# Altium schematic symbol library Interface_I2C.SchLib: 424 symbols (part 1 of 23)
Pins are listed as number, name and electrical type; pins without a type are passive.

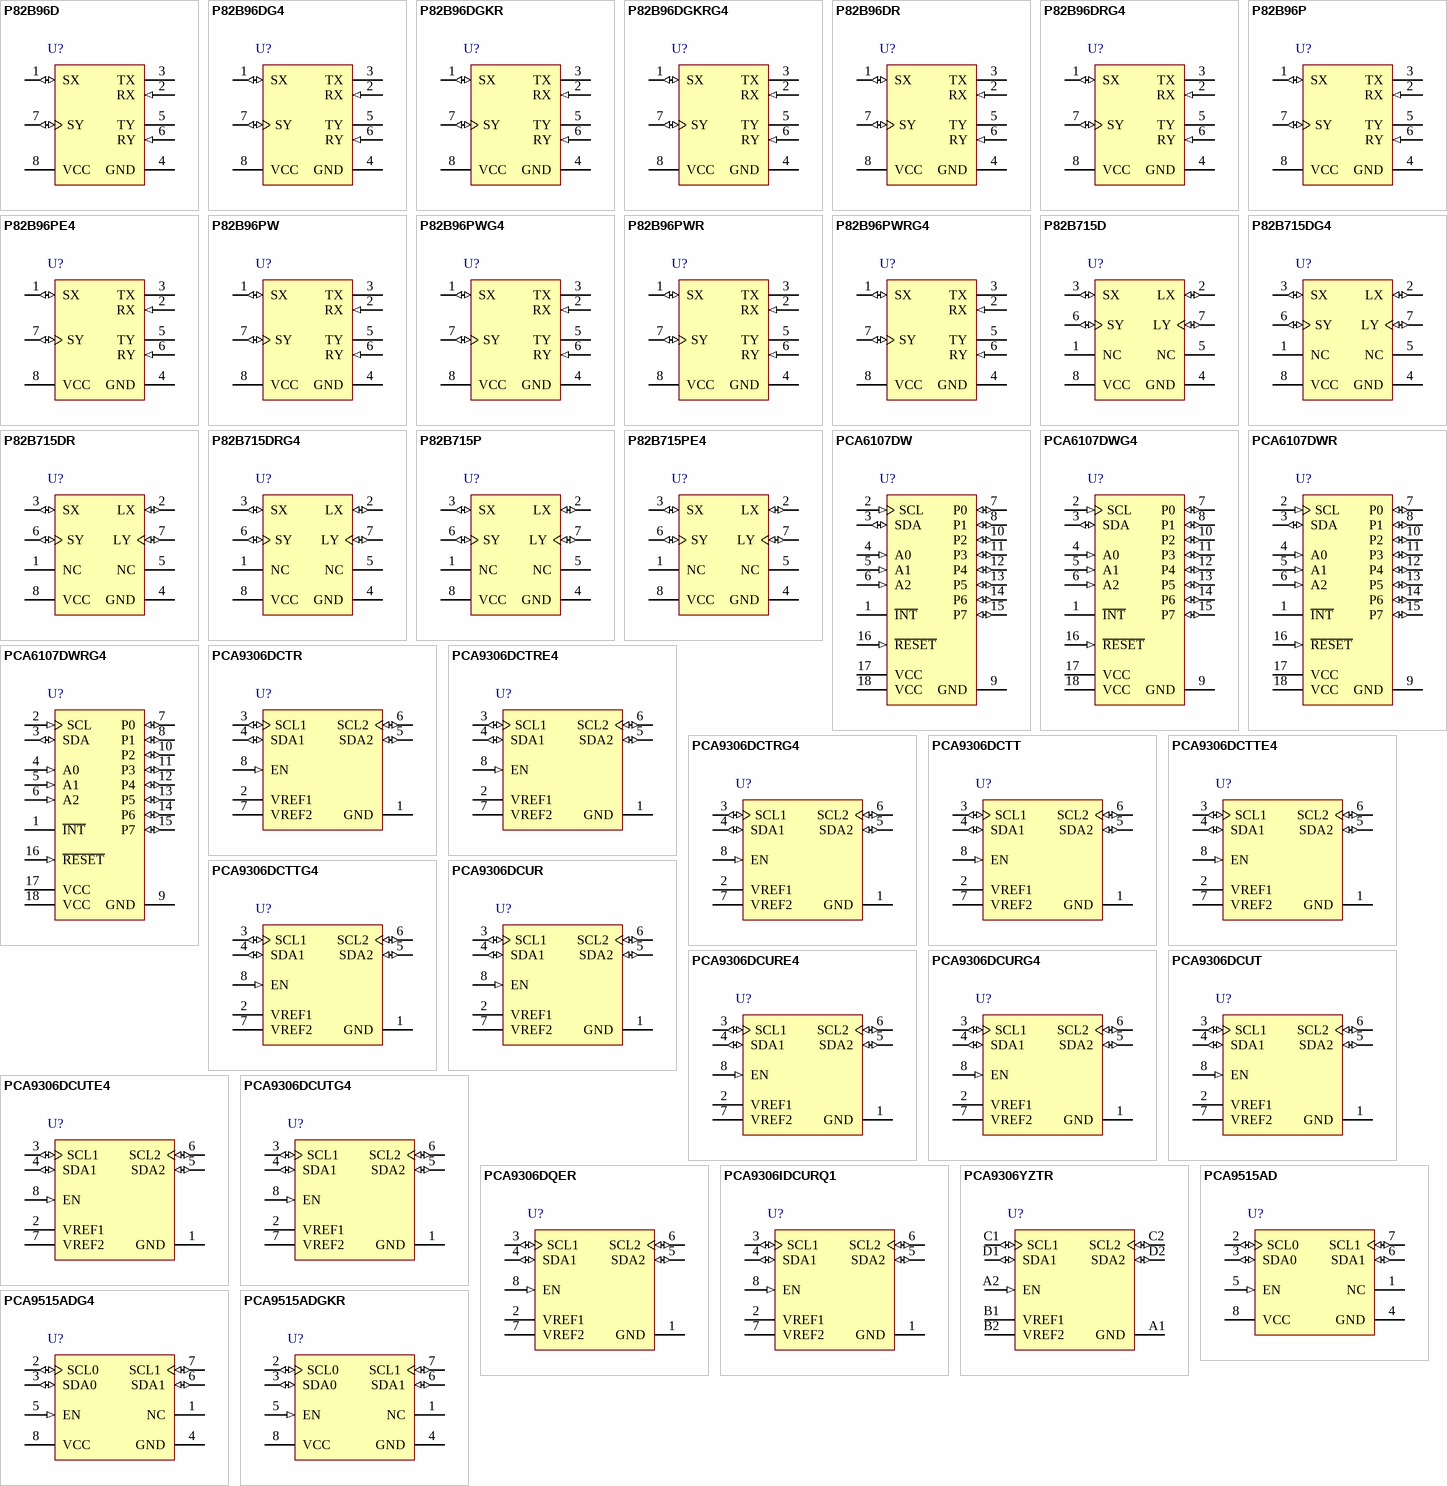
[diagram p0: symbols P82B96D to PCA9515ADGKR]

## P82B96D
designator U?
Dual Bidirectional Bus Buffer, 2 Channel Width, 2.0 to 15.0 V, -40 to 85 degC, 8-pin SOIC (D), Green (RoHS & no Sb/Br); Manufacturer: Texas Instruments; PartNumber: P82B96D; SubFamily: I2C Hub, Buffer, Repeater; No. of Outputs: 2; VCC(Max)(V): 15; Max Frequency(kHz): 400; 5V Tolerant I/O: Yes; DatasheetVersion: SCPS144B; PackageVersion: revM, Jun-2011; PackageReference: D8; PackageDescription: 8-Pin Plastic Small Outline Integrated Circuit, 4.9 x 3.9 mm, Pitch 1.27 mm Pitch; Supplier 1: Digi-Key; Supplier Part Number 1: P82B96D-ND; Supplier 2: Farnell; Supplier Part Number 2: 2120246; Supplier 3: Newark; Supplier Part Number 3: 88K6383; Supplier 4: Mouser; Supplier Part Number 4: 595-P82B96D; Eco-Plan: Green (RoHS & no Sb/Br); VCC(Min)(V): 2; Vcc range(V): 2.0 to 15.0; Channel Width: 2; Master Side I2C Bus Capacitance Supported(pF): 400; Slave Side I2C Bus Capacitance Supported(pF): 400; Open Drain I/O Type: Yes; Mounting Technology: Surface Mount; Code_JEDEC: MS-012AA; ComponentLink1Description: Datasheet; ComponentLink1URL: http://www.ti.com/general/docs/lit/getliterature.tsp?genericPartNumber=P82B96&fileType=pdf
footprint D8_N (SOIC, 8-Leads, Body 4.9x3.9mm, Pitch 1.27mm, IPC Medium Density)
footprint D8_L (SOIC, 8-Leads, Body 4.9x3.9mm, Pitch 1.27mm, IPC High Density)
footprint D8_M (SOIC, 8-Leads, Body 4.9x3.9mm, Pitch 1.27mm, IPC Low Density)
pins: 1 SX (io) "Serial data bus or SDA. Connect to VCC of I2C master through a pullup resistor.", 2 RX (in) "Receive signal. Connect to VCC of P82B96 through a pullup resistor.", 3 TX (oc) "Transmit signal. Connect to VCC of P82B96 through a pullup resistor.", 4 GND (power) "Ground", 5 TY (oc) "Transmit signal. Connect to VCC of P82B96 through a pullup resistor.", 6 RY (in) "Receive signal. Connect to VCC of P82B96 through a pullup resist", 7 SY (io) "Serial clock bus or SCL. Connect to VCC of I2C master through a pullup resistor.", 8 VCC (power) "Supply Voltage"

## P82B96DG4
designator U?
Dual Bidirectional Bus Buffer, 2 Channel Width, 2.0 to 15.0 V, -40 to 85 degC, 8-pin SOIC (D), Green (RoHS & no Sb/Br); Manufacturer: Texas Instruments; PartNumber: P82B96DG4; SubFamily: I2C Hub, Buffer, Repeater; No. of Outputs: 2; VCC(Max)(V): 15; Max Frequency(kHz): 400; 5V Tolerant I/O: Yes; DatasheetVersion: SCPS144B; PackageVersion: revM, Jun-2011; PackageReference: D8; PackageDescription: 8-Pin Plastic Small Outline Integrated Circuit, 4.9 x 3.9 mm, Pitch 1.27 mm Pitch; Supplier 1: Digi-Key; Supplier Part Number 1: P82B96DG4-ND; Supplier 2: Mouser; Supplier Part Number 2: 595-P82B96DG4; Eco-Plan: Green (RoHS & no Sb/Br); VCC(Min)(V): 2; Vcc range(V): 2.0 to 15.0; Channel Width: 2; Master Side I2C Bus Capacitance Supported(pF): 400; Slave Side I2C Bus Capacitance Supported(pF): 400; Open Drain I/O Type: Yes; Mounting Technology: Surface Mount; Code_JEDEC: MS-012AA; ComponentLink1Description: Datasheet; ComponentLink1URL: http://www.ti.com/general/docs/lit/getliterature.tsp?genericPartNumber=P82B96&fileType=pdf
footprint D8_N (SOIC, 8-Leads, Body 4.9x3.9mm, Pitch 1.27mm, IPC Medium Density)
footprint D8_L (SOIC, 8-Leads, Body 4.9x3.9mm, Pitch 1.27mm, IPC High Density)
footprint D8_M (SOIC, 8-Leads, Body 4.9x3.9mm, Pitch 1.27mm, IPC Low Density)
pins: 1 SX (io) "Serial data bus or SDA. Connect to VCC of I2C master through a pullup resistor.", 2 RX (in) "Receive signal. Connect to VCC of P82B96 through a pullup resistor.", 3 TX (oc) "Transmit signal. Connect to VCC of P82B96 through a pullup resistor.", 4 GND (power) "Ground", 5 TY (oc) "Transmit signal. Connect to VCC of P82B96 through a pullup resistor.", 6 RY (in) "Receive signal. Connect to VCC of P82B96 through a pullup resist", 7 SY (io) "Serial clock bus or SCL. Connect to VCC of I2C master through a pullup resistor.", 8 VCC (power) "Supply Voltage"

## P82B96DGKR
designator U?
Dual Bidirectional Bus Buffer, 2 Channel Width, 2.0 to 15.0 V, -40 to 85 degC, 8-pin MSOP (DGK), Green (RoHS & no Sb/Br); Manufacturer: Texas Instruments; PartNumber: P82B96DGKR; SubFamily: I2C Hub, Buffer, Repeater; No. of Outputs: 2; VCC(Max)(V): 15; Max Frequency(kHz): 400; 5V Tolerant I/O: Yes; DatasheetVersion: SCPS144B; PackageVersion: revE, May-2006; PackageReference: DGK8; PackageDescription: 8-Pin Thin Small Outline Package 3 x 3 mm Body ,0.65 mm Pitch; Supplier 1: Digi-Key; Supplier Part Number 1: 296-20941-2-ND; Supplier 2: Digi-Key; Supplier Part Number 2: 296-20941-1-ND; Supplier 3: Digi-Key; Supplier Part Number 3: 296-20941-6-ND; Supplier 4: Farnell; Supplier Part Number 4: 1576670; Supplier 5: Newark; Supplier Part Number 5: 88K6384; Supplier 6: Mouser; Supplier Part Number 6: 595-P82B96DGKR; Eco-Plan: Green (RoHS & no Sb/Br); VCC(Min)(V): 2; Vcc range(V): 2.0 to 15.0; Channel Width: 2; Master Side I2C Bus Capacitance Supported(pF): 400; Slave Side I2C Bus Capacitance Supported(pF): 400; Open Drain I/O Type: Yes; Mounting Technology: Surface Mount; Code_JEDEC: MO-187-AA; ComponentLink1Description: Datasheet; ComponentLink1URL: http://www.ti.com/general/docs/lit/getliterature.tsp?genericPartNumber=P82B96&fileType=pdf; ComponentLink2Description: Package Specification; ComponentLink2URL: http://www.ti.com/litv/pdf/msoi002j
footprint DGK8_N (TSOP, 8-Leads, Body 3x3mm, Pitch 0.65mm, IPC Medium Density)
footprint DGK8_L (TSOP, 8-Leads, Body 3x3mm, Pitch 0.65mm, IPC High Density)
footprint DGK8_M (TSOP, 8-Leads, Body 3x3mm, Pitch 0.65mm, IPC Low Density)
pins: 1 SX (io) "Serial data bus or SDA. Connect to VCC of I2C master through a pullup resistor.", 2 RX (in) "Receive signal. Connect to VCC of P82B96 through a pullup resistor.", 3 TX (oc) "Transmit signal. Connect to VCC of P82B96 through a pullup resistor.", 4 GND (power) "Ground", 5 TY (oc) "Transmit signal. Connect to VCC of P82B96 through a pullup resistor.", 6 RY (in) "Receive signal. Connect to VCC of P82B96 through a pullup resist", 7 SY (io) "Serial clock bus or SCL. Connect to VCC of I2C master through a pullup resistor.", 8 VCC (power) "Supply Voltage"

## P82B96DGKRG4
designator U?
Dual Bidirectional Bus Buffer, 2 Channel Width, 2.0 to 15.0 V, -40 to 85 degC, 8-pin MSOP (DGK), Green (RoHS & no Sb/Br); Manufacturer: Texas Instruments; PartNumber: P82B96DGKRG4; SubFamily: I2C Hub, Buffer, Repeater; No. of Outputs: 2; VCC(Max)(V): 15; Max Frequency(kHz): 400; 5V Tolerant I/O: Yes; DatasheetVersion: SCPS144B; PackageVersion: revE, May-2006; PackageReference: DGK8; PackageDescription: 8-Pin Thin Small Outline Package 3 x 3 mm Body ,0.65 mm Pitch; Supplier 1: Digi-Key; Supplier Part Number 1: P82B96DGKRG4-ND; Supplier 2: Mouser; Supplier Part Number 2: 595-P82B96DGKRG4; Eco-Plan: Green (RoHS & no Sb/Br); VCC(Min)(V): 2; Vcc range(V): 2.0 to 15.0; Channel Width: 2; Master Side I2C Bus Capacitance Supported(pF): 400; Slave Side I2C Bus Capacitance Supported(pF): 400; Open Drain I/O Type: Yes; Mounting Technology: Surface Mount; Code_JEDEC: MO-187-AA; ComponentLink1Description: Datasheet; ComponentLink1URL: http://www.ti.com/general/docs/lit/getliterature.tsp?genericPartNumber=P82B96&fileType=pdf; ComponentLink2Description: Package Specification; ComponentLink2URL: http://www.ti.com/litv/pdf/msoi002j
footprint DGK8_N (TSOP, 8-Leads, Body 3x3mm, Pitch 0.65mm, IPC Medium Density)
footprint DGK8_L (TSOP, 8-Leads, Body 3x3mm, Pitch 0.65mm, IPC High Density)
footprint DGK8_M (TSOP, 8-Leads, Body 3x3mm, Pitch 0.65mm, IPC Low Density)
pins: 1 SX (io) "Serial data bus or SDA. Connect to VCC of I2C master through a pullup resistor.", 2 RX (in) "Receive signal. Connect to VCC of P82B96 through a pullup resistor.", 3 TX (oc) "Transmit signal. Connect to VCC of P82B96 through a pullup resistor.", 4 GND (power) "Ground", 5 TY (oc) "Transmit signal. Connect to VCC of P82B96 through a pullup resistor.", 6 RY (in) "Receive signal. Connect to VCC of P82B96 through a pullup resist", 7 SY (io) "Serial clock bus or SCL. Connect to VCC of I2C master through a pullup resistor.", 8 VCC (power) "Supply Voltage"

## P82B96DR
designator U?
Dual Bidirectional Bus Buffer, 2 Channel Width, 2.0 to 15.0 V, -40 to 85 degC, 8-pin SOIC (D), Green (RoHS & no Sb/Br); Manufacturer: Texas Instruments; PartNumber: P82B96DR; SubFamily: I2C Hub, Buffer, Repeater; No. of Outputs: 2; VCC(Max)(V): 15; Max Frequency(kHz): 400; 5V Tolerant I/O: Yes; DatasheetVersion: SCPS144B; PackageVersion: revM, Jun-2011; PackageReference: D8; PackageDescription: 8-Pin Plastic Small Outline Integrated Circuit, 4.9 x 3.9 mm, Pitch 1.27 mm Pitch; Supplier 1: Digi-Key; Supplier Part Number 1: 296-20942-2-ND; Supplier 2: Digi-Key; Supplier Part Number 2: 296-20942-1-ND; Supplier 3: Digi-Key; Supplier Part Number 3: 296-20942-6-ND; Supplier 4: Farnell; Supplier Part Number 4: 1576671; Supplier 5: Newark; Supplier Part Number 5: 88K6385; Supplier 6: Mouser; Supplier Part Number 6: 595-P82B96DR; Eco-Plan: Green (RoHS & no Sb/Br); VCC(Min)(V): 2; Vcc range(V): 2.0 to 15.0; Channel Width: 2; Master Side I2C Bus Capacitance Supported(pF): 400; Slave Side I2C Bus Capacitance Supported(pF): 400; Open Drain I/O Type: Yes; Mounting Technology: Surface Mount; Code_JEDEC: MS-012AA; ComponentLink1Description: Datasheet; ComponentLink1URL: http://www.ti.com/general/docs/lit/getliterature.tsp?genericPartNumber=P82B96&fileType=pdf
footprint D8_N (SOIC, 8-Leads, Body 4.9x3.9mm, Pitch 1.27mm, IPC Medium Density)
footprint D8_L (SOIC, 8-Leads, Body 4.9x3.9mm, Pitch 1.27mm, IPC High Density)
footprint D8_M (SOIC, 8-Leads, Body 4.9x3.9mm, Pitch 1.27mm, IPC Low Density)
pins: 1 SX (io) "Serial data bus or SDA. Connect to VCC of I2C master through a pullup resistor.", 2 RX (in) "Receive signal. Connect to VCC of P82B96 through a pullup resistor.", 3 TX (oc) "Transmit signal. Connect to VCC of P82B96 through a pullup resistor.", 4 GND (power) "Ground", 5 TY (oc) "Transmit signal. Connect to VCC of P82B96 through a pullup resistor.", 6 RY (in) "Receive signal. Connect to VCC of P82B96 through a pullup resist", 7 SY (io) "Serial clock bus or SCL. Connect to VCC of I2C master through a pullup resistor.", 8 VCC (power) "Supply Voltage"

## P82B96DRG4
designator U?
Dual Bidirectional Bus Buffer, 2 Channel Width, 2.0 to 15.0 V, -40 to 85 degC, 8-pin SOIC (D), Green (RoHS & no Sb/Br); Manufacturer: Texas Instruments; PartNumber: P82B96DRG4; SubFamily: I2C Hub, Buffer, Repeater; No. of Outputs: 2; VCC(Max)(V): 15; Max Frequency(kHz): 400; 5V Tolerant I/O: Yes; DatasheetVersion: SCPS144B; PackageVersion: revM, Jun-2011; PackageReference: D8; PackageDescription: 8-Pin Plastic Small Outline Integrated Circuit, 4.9 x 3.9 mm, Pitch 1.27 mm Pitch; Supplier 1: Digi-Key; Supplier Part Number 1: P82B96DRG4-ND; Supplier 2: Mouser; Supplier Part Number 2: 595-P82B96DRG4; Eco-Plan: Green (RoHS & no Sb/Br); VCC(Min)(V): 2; Vcc range(V): 2.0 to 15.0; Channel Width: 2; Master Side I2C Bus Capacitance Supported(pF): 400; Slave Side I2C Bus Capacitance Supported(pF): 400; Open Drain I/O Type: Yes; Mounting Technology: Surface Mount; Code_JEDEC: MS-012AA; ComponentLink1Description: Datasheet; ComponentLink1URL: http://www.ti.com/general/docs/lit/getliterature.tsp?genericPartNumber=P82B96&fileType=pdf
footprint D8_N (SOIC, 8-Leads, Body 4.9x3.9mm, Pitch 1.27mm, IPC Medium Density)
footprint D8_L (SOIC, 8-Leads, Body 4.9x3.9mm, Pitch 1.27mm, IPC High Density)
footprint D8_M (SOIC, 8-Leads, Body 4.9x3.9mm, Pitch 1.27mm, IPC Low Density)
pins: 1 SX (io) "Serial data bus or SDA. Connect to VCC of I2C master through a pullup resistor.", 2 RX (in) "Receive signal. Connect to VCC of P82B96 through a pullup resistor.", 3 TX (oc) "Transmit signal. Connect to VCC of P82B96 through a pullup resistor.", 4 GND (power) "Ground", 5 TY (oc) "Transmit signal. Connect to VCC of P82B96 through a pullup resistor.", 6 RY (in) "Receive signal. Connect to VCC of P82B96 through a pullup resist", 7 SY (io) "Serial clock bus or SCL. Connect to VCC of I2C master through a pullup resistor.", 8 VCC (power) "Supply Voltage"

## P82B96P
designator U?
Dual Bidirectional Bus Buffer, 2 Channel Width, 2.0 to 15.0 V, -40 to 85 degC, 8-pin PDIP (P), Pb-Free (RoHS); Manufacturer: Texas Instruments; PartNumber: P82B96P; Eco-Plan: Green (RoHS & no Sb/Br); SubFamily: I2C Hub, Buffer, Repeater; No. of Outputs: 2; VCC(Max)(V): 15; Max Frequency(kHz): 400; 5V Tolerant I/O: Yes; DatasheetVersion: SCPS144B; PackageVersion: revE, Apr-2010; PackageReference: P8; PackageDescription: 8-Pin Plastic Dual-In-Line Package, Row Spacing 7.62 mm, Pitch 2.54 mm; Supplier 1: Digi-Key; Supplier Part Number 1: 296-20943-5-ND; Supplier 2: Farnell; Supplier Part Number 2: 1576673; Supplier 3: Newark; Supplier Part Number 3: 88K6386; Supplier 4: Mouser; Supplier Part Number 4: 595-P82B96P; VCC(Min)(V): 2; Vcc range(V): 2.0 to 15.0; Channel Width: 2; Master Side I2C Bus Capacitance Supported(pF): 400; Slave Side I2C Bus Capacitance Supported(pF): 400; Open Drain I/O Type: Yes; Mounting Technology: Through-hole; Code_JEDEC: MS-001-BA; ComponentLink1Description: Datasheet; ComponentLink1URL: http://www.ti.com/general/docs/lit/getliterature.tsp?genericPartNumber=P82B96&fileType=pdf; ComponentLink2Description: Package Specification; ComponentLink2URL: http://www.ti.com/litv/pdf/mpdi001b
footprint P8 (DIP, 8-Leads, Row Spacing 7.62mm, Pitch 2.54mm, Body 9.6x6.4mm)
pins: 1 SX (io) "Serial data bus or SDA. Connect to VCC of I2C master through a pullup resistor.", 2 RX (in) "Receive signal. Connect to VCC of P82B96 through a pullup resistor.", 3 TX (oc) "Transmit signal. Connect to VCC of P82B96 through a pullup resistor.", 4 GND (power) "Ground", 5 TY (oc) "Transmit signal. Connect to VCC of P82B96 through a pullup resistor.", 6 RY (in) "Receive signal. Connect to VCC of P82B96 through a pullup resist", 7 SY (io) "Serial clock bus or SCL. Connect to VCC of I2C master through a pullup resistor.", 8 VCC (power) "Supply Voltage"

## P82B96PE4
designator U?
Dual Bidirectional Bus Buffer, 2 Channel Width, 2.0 to 15.0 V, -40 to 85 degC, 8-pin PDIP (P), Pb-Free (RoHS); Manufacturer: Texas Instruments; PartNumber: P82B96PE4; Eco-Plan: Green (RoHS & no Sb/Br); SubFamily: I2C Hub, Buffer, Repeater; No. of Outputs: 2; VCC(Max)(V): 15; Max Frequency(kHz): 400; 5V Tolerant I/O: Yes; DatasheetVersion: SCPS144B; PackageVersion: revE, Apr-2010; PackageReference: P8; PackageDescription: 8-Pin Plastic Dual-In-Line Package, Row Spacing 7.62 mm, Pitch 2.54 mm; Supplier 1: Digi-Key; Supplier Part Number 1: P82B96PE4-ND; Supplier 2: Newark; Supplier Part Number 2: 99K4175; Supplier 3: Mouser; Supplier Part Number 3: 595-P82B96PE4; VCC(Min)(V): 2; Vcc range(V): 2.0 to 15.0; Channel Width: 2; Master Side I2C Bus Capacitance Supported(pF): 400; Slave Side I2C Bus Capacitance Supported(pF): 400; Open Drain I/O Type: Yes; Mounting Technology: Through-hole; Code_JEDEC: MS-001-BA; ComponentLink1Description: Datasheet; ComponentLink1URL: http://www.ti.com/general/docs/lit/getliterature.tsp?genericPartNumber=P82B96&fileType=pdf; ComponentLink2Description: Package Specification; ComponentLink2URL: http://www.ti.com/litv/pdf/mpdi001b
footprint P8 (DIP, 8-Leads, Row Spacing 7.62mm, Pitch 2.54mm, Body 9.6x6.4mm)
pins: 1 SX (io) "Serial data bus or SDA. Connect to VCC of I2C master through a pullup resistor.", 2 RX (in) "Receive signal. Connect to VCC of P82B96 through a pullup resistor.", 3 TX (oc) "Transmit signal. Connect to VCC of P82B96 through a pullup resistor.", 4 GND (power) "Ground", 5 TY (oc) "Transmit signal. Connect to VCC of P82B96 through a pullup resistor.", 6 RY (in) "Receive signal. Connect to VCC of P82B96 through a pullup resist", 7 SY (io) "Serial clock bus or SCL. Connect to VCC of I2C master through a pullup resistor.", 8 VCC (power) "Supply Voltage"

## P82B96PW
designator U?
Dual Bidirectional Bus Buffer, 2 Channel Width, 2.0 to 15.0 V, -40 to 85 degC, 8-pin TSSOP (PW), Green (RoHS & no Sb/Br); Manufacturer: Texas Instruments; PartNumber: P82B96PW; SubFamily: I2C Hub, Buffer, Repeater; No. of Outputs: 2; VCC(Max)(V): 15; Max Frequency(kHz): 400; 5V Tolerant I/O: Yes; DatasheetVersion: SCPS144B; PackageVersion: revG, Feb-2011; PackageReference: PW8; PackageDescription: 8-Pin Plastic Thin Small Outline Package 3 x 4.4 mm Body ,0.65 mm Pitch; Supplier 1: Digi-Key; Supplier Part Number 1: P82B96PW-ND; Supplier 2: Newark; Supplier Part Number 2: 88K6387; Supplier 3: Mouser; Supplier Part Number 3: 595-P82B96PW; Eco-Plan: Green (RoHS & no Sb/Br); VCC(Min)(V): 2; Vcc range(V): 2.0 to 15.0; Channel Width: 2; Master Side I2C Bus Capacitance Supported(pF): 400; Slave Side I2C Bus Capacitance Supported(pF): 400; Open Drain I/O Type: Yes; Mounting Technology: Surface Mount; Code_JEDEC: MO-153; ComponentLink1Description: Datasheet; ComponentLink1URL: http://www.ti.com/general/docs/lit/getliterature.tsp?genericPartNumber=P82B96&fileType=pdf
footprint PW8_N (TSOP, 8-Leads, Body 3x4.4mm, Pitch 0.65mm, IPC Medium Density)
footprint PW8_L (TSOP, 8-Leads, Body 3x4.4mm, Pitch 0.65mm, IPC High Density)
footprint PW8_M (TSOP, 8-Leads, Body 3x4.4mm, Pitch 0.65mm, IPC Low Density)
pins: 1 SX (io) "Serial data bus or SDA. Connect to VCC of I2C master through a pullup resistor.", 2 RX (in) "Receive signal. Connect to VCC of P82B96 through a pullup resistor.", 3 TX (oc) "Transmit signal. Connect to VCC of P82B96 through a pullup resistor.", 4 GND (power) "Ground", 5 TY (oc) "Transmit signal. Connect to VCC of P82B96 through a pullup resistor.", 6 RY (in) "Receive signal. Connect to VCC of P82B96 through a pullup resistor", 7 SY (io) "Serial clock bus or SCL. Connect to VCC of I2C master through a pullup resistor.", 8 VCC (power) "Supply Voltage"

## P82B96PWG4
designator U?
Dual Bidirectional Bus Buffer, 2 Channel Width, 2.0 to 15.0 V, -40 to 85 degC, 8-pin TSSOP (PW), Green (RoHS & no Sb/Br); Manufacturer: Texas Instruments; PartNumber: P82B96PWG4; SubFamily: I2C Hub, Buffer, Repeater; No. of Outputs: 2; VCC(Max)(V): 15; Max Frequency(kHz): 400; 5V Tolerant I/O: Yes; DatasheetVersion: SCPS144B; PackageVersion: revG, Feb-2011; PackageReference: PW8; PackageDescription: 8-Pin Plastic Thin Small Outline Package 3 x 4.4 mm Body ,0.65 mm Pitch; Supplier 1: Digi-Key; Supplier Part Number 1: P82B96PWG4-ND; Supplier 2: Mouser; Supplier Part Number 2: 595-P82B96PWG4; Eco-Plan: Green (RoHS & no Sb/Br); VCC(Min)(V): 2; Vcc range(V): 2.0 to 15.0; Channel Width: 2; Master Side I2C Bus Capacitance Supported(pF): 400; Slave Side I2C Bus Capacitance Supported(pF): 400; Open Drain I/O Type: Yes; Mounting Technology: Surface Mount; Code_JEDEC: MO-153; ComponentLink1Description: Datasheet; ComponentLink1URL: http://www.ti.com/general/docs/lit/getliterature.tsp?genericPartNumber=P82B96&fileType=pdf
footprint PW8_N (TSOP, 8-Leads, Body 3x4.4mm, Pitch 0.65mm, IPC Medium Density)
footprint PW8_L (TSOP, 8-Leads, Body 3x4.4mm, Pitch 0.65mm, IPC High Density)
footprint PW8_M (TSOP, 8-Leads, Body 3x4.4mm, Pitch 0.65mm, IPC Low Density)
pins: 1 SX (io) "Serial data bus or SDA. Connect to VCC of I2C master through a pullup resistor.", 2 RX (in) "Receive signal. Connect to VCC of P82B96 through a pullup resistor.", 3 TX (oc) "Transmit signal. Connect to VCC of P82B96 through a pullup resistor.", 4 GND (power) "Ground", 5 TY (oc) "Transmit signal. Connect to VCC of P82B96 through a pullup resistor.", 6 RY (in) "Receive signal. Connect to VCC of P82B96 through a pullup resistor", 7 SY (io) "Serial clock bus or SCL. Connect to VCC of I2C master through a pullup resistor.", 8 VCC (power) "Supply Voltage"

## P82B96PWR
designator U?
Dual Bidirectional Bus Buffer, 2 Channel Width, 2.0 to 15.0 V, -40 to 85 degC, 8-pin TSSOP (PW), Green (RoHS & no Sb/Br); Manufacturer: Texas Instruments; PartNumber: P82B96PWR; SubFamily: I2C Hub, Buffer, Repeater; No. of Outputs: 2; VCC(Max)(V): 15; Max Frequency(kHz): 400; 5V Tolerant I/O: Yes; DatasheetVersion: SCPS144B; PackageVersion: revG, Feb-2011; PackageReference: PW8; PackageDescription: 8-Pin Plastic Thin Small Outline Package 3 x 4.4 mm Body ,0.65 mm Pitch; Supplier 1: Digi-Key; Supplier Part Number 1: 296-20944-2-ND; Supplier 2: Digi-Key; Supplier Part Number 2: 296-20944-1-ND; Supplier 3: Digi-Key; Supplier Part Number 3: 296-20944-6-ND; Supplier 4: Farnell; Supplier Part Number 4: 1576675; Supplier 5: Newark; Supplier Part Number 5: 88K6388; Supplier 6: Mouser; Supplier Part Number 6: 595-P82B96PWR; Eco-Plan: Green (RoHS & no Sb/Br); VCC(Min)(V): 2; Vcc range(V): 2.0 to 15.0; Channel Width: 2; Master Side I2C Bus Capacitance Supported(pF): 400; Slave Side I2C Bus Capacitance Supported(pF): 400; Open Drain I/O Type: Yes; Mounting Technology: Surface Mount; Code_JEDEC: MO-153; ComponentLink1Description: Datasheet; ComponentLink1URL: http://www.ti.com/general/docs/lit/getliterature.tsp?genericPartNumber=P82B96&fileType=pdf
footprint PW8_N (TSOP, 8-Leads, Body 3x4.4mm, Pitch 0.65mm, IPC Medium Density)
footprint PW8_L (TSOP, 8-Leads, Body 3x4.4mm, Pitch 0.65mm, IPC High Density)
footprint PW8_M (TSOP, 8-Leads, Body 3x4.4mm, Pitch 0.65mm, IPC Low Density)
pins: 1 SX (io) "Serial data bus or SDA. Connect to VCC of I2C master through a pullup resistor.", 2 RX (in) "Receive signal. Connect to VCC of P82B96 through a pullup resistor.", 3 TX (oc) "Transmit signal. Connect to VCC of P82B96 through a pullup resistor.", 4 GND (power) "Ground", 5 TY (oc) "Transmit signal. Connect to VCC of P82B96 through a pullup resistor.", 6 RY (in) "Receive signal. Connect to VCC of P82B96 through a pullup resistor", 7 SY (io) "Serial clock bus or SCL. Connect to VCC of I2C master through a pullup resistor.", 8 VCC (power) "Supply Voltage"

## P82B96PWRG4
designator U?
Dual Bidirectional Bus Buffer, 2 Channel Width, 2.0 to 15.0 V, -40 to 85 degC, 8-pin TSSOP (PW), Green (RoHS & no Sb/Br); Manufacturer: Texas Instruments; PartNumber: P82B96PWRG4; SubFamily: I2C Hub, Buffer, Repeater; No. of Outputs: 2; VCC(Max)(V): 15; Max Frequency(kHz): 400; 5V Tolerant I/O: Yes; DatasheetVersion: SCPS144B; PackageVersion: revG, Feb-2011; PackageReference: PW8; PackageDescription: 8-Pin Plastic Thin Small Outline Package 3 x 4.4 mm Body ,0.65 mm Pitch; Supplier 1: Digi-Key; Supplier Part Number 1: P82B96PWRG4-ND; Supplier 2: Mouser; Supplier Part Number 2: 595-P82B96PWRG4; Eco-Plan: Green (RoHS & no Sb/Br); VCC(Min)(V): 2; Vcc range(V): 2.0 to 15.0; Channel Width: 2; Master Side I2C Bus Capacitance Supported(pF): 400; Slave Side I2C Bus Capacitance Supported(pF): 400; Open Drain I/O Type: Yes; Mounting Technology: Surface Mount; Code_JEDEC: MO-153; ComponentLink1Description: Datasheet; ComponentLink1URL: http://www.ti.com/general/docs/lit/getliterature.tsp?genericPartNumber=P82B96&fileType=pdf
footprint PW8_N (TSOP, 8-Leads, Body 3x4.4mm, Pitch 0.65mm, IPC Medium Density)
footprint PW8_L (TSOP, 8-Leads, Body 3x4.4mm, Pitch 0.65mm, IPC High Density)
footprint PW8_M (TSOP, 8-Leads, Body 3x4.4mm, Pitch 0.65mm, IPC Low Density)
pins: 1 SX (io) "Serial data bus or SDA. Connect to VCC of I2C master through a pullup resistor.", 2 RX (in) "Receive signal. Connect to VCC of P82B96 through a pullup resistor.", 3 TX (oc) "Transmit signal. Connect to VCC of P82B96 through a pullup resistor.", 4 GND (power) "Ground", 5 TY (oc) "Transmit signal. Connect to VCC of P82B96 through a pullup resistor.", 6 RY (in) "Receive signal. Connect to VCC of P82B96 through a pullup resistor", 7 SY (io) "Serial clock bus or SCL. Connect to VCC of I2C master through a pullup resistor.", 8 VCC (power) "Supply Voltage"

## P82B715D
designator U?
I2C Bus Extender, 2 Channel Width, 3.0 to 12.0 V, -40 to 85 degC, 8-pin SOIC (D), Green (RoHS & no Sb/Br); Manufacturer: Texas Instruments; PartNumber: P82B715D; SubFamily: I2C Hub, Buffer, Repeater; VCC(Max)(V): 12; VCC(Min)(V): 3; Max Frequency(kHz): 400; Channel Width: 2; 5V Tolerant I/O: Yes; DatasheetVersion: SCPS145A; PackageVersion: revM, Jun-2011; PackageReference: D8; PackageDescription: 8-Pin Plastic Small Outline Integrated Circuit, 4.9 x 3.9 mm, Pitch 1.27 mm Pitch; Supplier 1: Digi-Key; Supplier Part Number 1: 296-23610-5-ND; Supplier 2: Farnell; Supplier Part Number 2: 2101288; Supplier 3: Farnell; Supplier Part Number 3: 1604945; Supplier 4: Newark; Supplier Part Number 4: 84M9793; Supplier 5: Mouser; Supplier Part Number 5: 595-P82B715D; Eco-Plan: Green (RoHS & no Sb/Br); Vcc range(V): 3.0 to 12.0; Master Side I2C Bus Capacitance Supported(pF): 400; Slave Side I2C Bus Capacitance Supported(pF): 400; Open Drain I/O Type: Yes; Mounting Technology: Surface Mount; Code_JEDEC: MS-012AA; ComponentLink1Description: Datasheet; ComponentLink1URL: http://www.ti.com/general/docs/lit/getliterature.tsp?genericPartNumber=P82B715&fileType=pdf
footprint D8_N (SOIC, 8-Leads, Body 4.9x3.9mm, Pitch 1.27mm, IPC Medium Density)
footprint D8_L (SOIC, 8-Leads, Body 4.9x3.9mm, Pitch 1.27mm, IPC High Density)
footprint D8_M (SOIC, 8-Leads, Body 4.9x3.9mm, Pitch 1.27mm, IPC Low Density)
pins: 1 NC "No connection", 2 LX (io) "Buffered serial data bus or LDA", 3 SX (io) "Serial data bus or SDA. Connect to VCC of 12C master through a pullup resistor.", 4 GND (power) "Ground", 5 NC "No connection", 6 SY (io) "Serial clock bus or SCL. Connect to VCC of  12 C master through a pullup resistor.", 7 LY (io) "Buffered serial clock bus or LCL", 8 VCC (power) "Supply Voltage"

## P82B715DG4
designator U?
I2C Bus Extender, 2 Channel Width, 3.0 to 12.0 V, -40 to 85 degC, 8-pin SOIC (D), Green (RoHS & no Sb/Br); Manufacturer: Texas Instruments; PartNumber: P82B715DG4; SubFamily: I2C Hub, Buffer, Repeater; VCC(Max)(V): 12; VCC(Min)(V): 3; Max Frequency(kHz): 400; Channel Width: 2; 5V Tolerant I/O: Yes; DatasheetVersion: SCPS145A; PackageVersion: revM, Jun-2011; PackageReference: D8; PackageDescription: 8-Pin Plastic Small Outline Integrated Circuit, 4.9 x 3.9 mm, Pitch 1.27 mm Pitch; Supplier 1: Digi-Key; Supplier Part Number 1: P82B715DG4-ND; Supplier 2: Mouser; Supplier Part Number 2: 595-P82B715DG4; Eco-Plan: Green (RoHS & no Sb/Br); Vcc range(V): 3.0 to 12.0; Master Side I2C Bus Capacitance Supported(pF): 400; Slave Side I2C Bus Capacitance Supported(pF): 400; Open Drain I/O Type: Yes; Mounting Technology: Surface Mount; Code_JEDEC: MS-012AA; ComponentLink1Description: Datasheet; ComponentLink1URL: http://www.ti.com/general/docs/lit/getliterature.tsp?genericPartNumber=P82B715&fileType=pdf
footprint D8_N (SOIC, 8-Leads, Body 4.9x3.9mm, Pitch 1.27mm, IPC Medium Density)
footprint D8_L (SOIC, 8-Leads, Body 4.9x3.9mm, Pitch 1.27mm, IPC High Density)
footprint D8_M (SOIC, 8-Leads, Body 4.9x3.9mm, Pitch 1.27mm, IPC Low Density)
pins: 1 NC "No connection", 2 LX (io) "Buffered serial data bus or LDA", 3 SX (io) "Serial data bus or SDA. Connect to VCC of 12C master through a pullup resistor.", 4 GND (power) "Ground", 5 NC "No connection", 6 SY (io) "Serial clock bus or SCL. Connect to VCC of  12 C master through a pullup resistor.", 7 LY (io) "Buffered serial clock bus or LCL", 8 VCC (power) "Supply Voltage"

## P82B715DR
designator U?
I2C Bus Extender, 2 Channel Width, 3.0 to 12.0 V, -40 to 85 degC, 8-pin SOIC (D), Green (RoHS & no Sb/Br); Manufacturer: Texas Instruments; PartNumber: P82B715DR; SubFamily: I2C Hub, Buffer, Repeater; VCC(Max)(V): 12; VCC(Min)(V): 3; Max Frequency(kHz): 400; Channel Width: 2; 5V Tolerant I/O: Yes; DatasheetVersion: SCPS145A; PackageVersion: revM, Jun-2011; PackageReference: D8; PackageDescription: 8-Pin Plastic Small Outline Integrated Circuit, 4.9 x 3.9 mm, Pitch 1.27 mm Pitch; Supplier 1: Digi-Key; Supplier Part Number 1: 296-24729-2-ND; Supplier 2: Digi-Key; Supplier Part Number 2: 296-24729-1-ND; Supplier 3: Digi-Key; Supplier Part Number 3: 296-24729-6-ND; Supplier 4: Newark; Supplier Part Number 4: 84M9795; Supplier 5: Mouser; Supplier Part Number 5: 595-P82B715DR; Eco-Plan: Green (RoHS & no Sb/Br); Vcc range(V): 3.0 to 12.0; Master Side I2C Bus Capacitance Supported(pF): 400; Slave Side I2C Bus Capacitance Supported(pF): 400; Open Drain I/O Type: Yes; Mounting Technology: Surface Mount; Code_JEDEC: MS-012AA; ComponentLink1Description: Datasheet; ComponentLink1URL: http://www.ti.com/general/docs/lit/getliterature.tsp?genericPartNumber=P82B715&fileType=pdf
footprint D8_N (SOIC, 8-Leads, Body 4.9x3.9mm, Pitch 1.27mm, IPC Medium Density)
footprint D8_L (SOIC, 8-Leads, Body 4.9x3.9mm, Pitch 1.27mm, IPC High Density)
footprint D8_M (SOIC, 8-Leads, Body 4.9x3.9mm, Pitch 1.27mm, IPC Low Density)
pins: 1 NC "No connection", 2 LX (io) "Buffered serial data bus or LDA", 3 SX (io) "Serial data bus or SDA. Connect to VCC of 12C master through a pullup resistor.", 4 GND (power) "Ground", 5 NC "No connection", 6 SY (io) "Serial clock bus or SCL. Connect to VCC of  12 C master through a pullup resistor.", 7 LY (io) "Buffered serial clock bus or LCL", 8 VCC (power) "Supply Voltage"

## P82B715DRG4
designator U?
I2C Bus Extender, 2 Channel Width, 3.0 to 12.0 V, -40 to 85 degC, 8-pin SOIC (D), Green (RoHS & no Sb/Br); Manufacturer: Texas Instruments; PartNumber: P82B715DRG4; SubFamily: I2C Hub, Buffer, Repeater; VCC(Max)(V): 12; VCC(Min)(V): 3; Max Frequency(kHz): 400; Channel Width: 2; 5V Tolerant I/O: Yes; DatasheetVersion: SCPS145A; PackageVersion: revM, Jun-2011; PackageReference: D8; PackageDescription: 8-Pin Plastic Small Outline Integrated Circuit, 4.9 x 3.9 mm, Pitch 1.27 mm Pitch; Supplier 1: Digi-Key; Supplier Part Number 1: P82B715DRG4-ND; Supplier 2: Newark; Supplier Part Number 2: 84M9796; Supplier 3: Mouser; Supplier Part Number 3: 595-P82B715DRG4; Eco-Plan: Green (RoHS & no Sb/Br); Vcc range(V): 3.0 to 12.0; Master Side I2C Bus Capacitance Supported(pF): 400; Slave Side I2C Bus Capacitance Supported(pF): 400; Open Drain I/O Type: Yes; Mounting Technology: Surface Mount; Code_JEDEC: MS-012AA; ComponentLink1Description: Datasheet; ComponentLink1URL: http://www.ti.com/general/docs/lit/getliterature.tsp?genericPartNumber=P82B715&fileType=pdf
footprint D8_N (SOIC, 8-Leads, Body 4.9x3.9mm, Pitch 1.27mm, IPC Medium Density)
footprint D8_L (SOIC, 8-Leads, Body 4.9x3.9mm, Pitch 1.27mm, IPC High Density)
footprint D8_M (SOIC, 8-Leads, Body 4.9x3.9mm, Pitch 1.27mm, IPC Low Density)
pins: 1 NC "No connection", 2 LX (io) "Buffered serial data bus or LDA", 3 SX (io) "Serial data bus or SDA. Connect to VCC of 12C master through a pullup resistor.", 4 GND (power) "Ground", 5 NC "No connection", 6 SY (io) "Serial clock bus or SCL. Connect to VCC of  12 C master through a pullup resistor.", 7 LY (io) "Buffered serial clock bus or LCL", 8 VCC (power) "Supply Voltage"

## P82B715P
designator U?
I2C Bus Extender, 2 Channel Width, 3.0 to 12.0 V, -40 to 85 degC, 8-pin PDIP (P), Pb-Free (RoHS); Manufacturer: Texas Instruments; PartNumber: P82B715P; Eco-Plan: Green (RoHS & no Sb/Br); SubFamily: I2C Hub, Buffer, Repeater; VCC(Max)(V): 12; VCC(Min)(V): 3; Max Frequency(kHz): 400; Channel Width: 2; 5V Tolerant I/O: Yes; DatasheetVersion: SCPS145A; PackageVersion: revE, Apr-2010; PackageReference: P8; PackageDescription: 8-Pin Plastic Dual-In-Line Package, Row Spacing 7.62 mm, Pitch 2.54 mm; Supplier 1: Digi-Key; Supplier Part Number 1: 296-23469-5-ND; Supplier 2: Farnell; Supplier Part Number 2: 1604947; Supplier 3: Newark; Supplier Part Number 3: 84M9797; Supplier 4: Mouser; Supplier Part Number 4: 595-P82B715P; Vcc range(V): 3.0 to 12.0; Master Side I2C Bus Capacitance Supported(pF): 400; Slave Side I2C Bus Capacitance Supported(pF): 400; Open Drain I/O Type: Yes; Mounting Technology: Through-hole; Code_JEDEC: MS-001-BA; ComponentLink1Description: Datasheet; ComponentLink1URL: http://www.ti.com/general/docs/lit/getliterature.tsp?genericPartNumber=P82B715&fileType=pdf; ComponentLink2Description: Package Specification; ComponentLink2URL: http://www.ti.com/litv/pdf/mpdi001b
footprint P8 (DIP, 8-Leads, Row Spacing 7.62mm, Pitch 2.54mm, Body 9.6x6.4mm)
pins: 1 NC "No connection", 2 LX (io) "Buffered serial data bus or LDA", 3 SX (io) "Serial data bus or SDA. Connect to VCC of 12C master through a pullup resistor.", 4 GND (power) "Ground", 5 NC "No connection", 6 SY (io) "Serial clock bus or SCL. Connect to VCC of  12 C master through a pullup resistor.", 7 LY (io) "Buffered serial clock bus or LCL", 8 VCC (power) "Supply Voltage"

## P82B715PE4
designator U?
I2C Bus Extender, 2 Channel Width, 3.0 to 12.0 V, -40 to 85 degC, 8-pin PDIP (P), Pb-Free (RoHS); Manufacturer: Texas Instruments; PartNumber: P82B715PE4; Eco-Plan: Green (RoHS & no Sb/Br); SubFamily: I2C Hub, Buffer, Repeater; VCC(Max)(V): 12; VCC(Min)(V): 3; Max Frequency(kHz): 400; Channel Width: 2; 5V Tolerant I/O: Yes; DatasheetVersion: SCPS145A; PackageVersion: revE, Apr-2010; PackageReference: P8; PackageDescription: 8-Pin Plastic Dual-In-Line Package, Row Spacing 7.62 mm, Pitch 2.54 mm; Supplier 1: Digi-Key; Supplier Part Number 1: P82B715PE4-ND; Supplier 2: Newark; Supplier Part Number 2: 89M2602; Supplier 3: Mouser; Supplier Part Number 3: 595-P82B715PE4; Vcc range(V): 3.0 to 12.0; Master Side I2C Bus Capacitance Supported(pF): 400; Slave Side I2C Bus Capacitance Supported(pF): 400; Open Drain I/O Type: Yes; Mounting Technology: Through-hole; Code_JEDEC: MS-001-BA; ComponentLink1Description: Datasheet; ComponentLink1URL: http://www.ti.com/general/docs/lit/getliterature.tsp?genericPartNumber=P82B715&fileType=pdf; ComponentLink2Description: Package Specification; ComponentLink2URL: http://www.ti.com/litv/pdf/mpdi001b
footprint P8 (DIP, 8-Leads, Row Spacing 7.62mm, Pitch 2.54mm, Body 9.6x6.4mm)
pins: 1 NC "No connection", 2 LX (io) "Buffered serial data bus or LDA", 3 SX (io) "Serial data bus or SDA. Connect to VCC of 12C master through a pullup resistor.", 4 GND (power) "Ground", 5 NC "No connection", 6 SY (io) "Serial clock bus or SCL. Connect to VCC of  12 C master through a pullup resistor.", 7 LY (io) "Buffered serial clock bus or LCL", 8 VCC (power) "Supply Voltage"

## PCA6107DW
designator U?
Remote 8-Bit I2C and SMBus Low-Power I/O Expander with Interrupt Output, Reset, and Config Registers, 8 Outputs, -40 to 85 degC, 18-pin SOIC (DW), Green (RoHS & no Sb/Br); Manufacturer: Texas Instruments; PartNumber: PCA6107DW; SubFamily: I2C IO Expander; No. of Outputs: 8; Interrupt Output: Yes; Technology Family: PCA; fSCLK(Max)(MHz): 100, 400; VCC(Min)(V): 2.3; VCC(Max)(V): 5.5; DatasheetVersion: SCPS139D; PackageVersion: revG, Jan-2011; PackageReference: DW18; PackageDescription: 18-Pin Plastic Small Outline Integrated Circuit, 11.6 x 7.5 mm, Pitch 1.27 mm Pitch; Supplier 1: Digi-Key; Supplier Part Number 1: PCA6107DW-ND; Supplier 2: Newark; Supplier Part Number 2: 02M4028; Supplier 3: Mouser; Supplier Part Number 3: 595-PCA6107DW; Eco-Plan: Green (RoHS & no Sb/Br); Reset Input: Yes; Mounting Technology: Surface Mount; Code_JEDEC: MS-013-AB; ComponentLink1Description: Datasheet; ComponentLink1URL: http://www.ti.com/general/docs/lit/getliterature.tsp?genericPartNumber=PCA6107&fileType=pdf; ComponentLink2Description: Package Specification; ComponentLink2URL: http://www.ti.com/litv/pdf/mpds172a
footprint DW18_N (SOIC, 18-Leads, Body 11.6x7.5mm, Pitch 1.27mm, IPC Medium Density)
footprint DW18_L (SOIC, 18-Leads, Body 11.6x7.5mm, Pitch 1.27mm, IPC High Density)
footprint DW18_M (SOIC, 18-Leads, Body 11.6x7.5mm, Pitch 1.27mm, IPC Low Density)
pins: 1 ~{INT} (oc) "Interrupt output. Connect to VCC through a pullup resistor.", 2 SCL (in) "Serial clock bus. Connect to VCC through a pullup resistor.", 3 SDA (io) "Serial data bus. Connect to VCC through a pullup resistor.", 4 A0 (in) "Address input. Connect directly to VCC or ground.", 5 A1 (in) "Address input. Connect directly to VCC or ground.", 6 A2 (in) "Address input. Connect directly to VCC or ground.", 7 P0 (io) "P-port input/output. Open-drain design structure. Connect to VCC through a pullup resistor.", 8 P1 (io) "P-port input/output. Push-pull design structure.", 9 GND (power) "Ground", 10 P2 (io) "P-port input/output. Push-pull design structure.", 11 P3 (io) "P-port input/output. Push-pull design structure.", 12 P4 (io) "P-port input/output. Push-pull design structure.", 13 P5 (io) "P-port input/output. Push-pull design structure.", 14 P6 (io) "P-port input/output. Push-pull design structure.", 15 P7 (io) "P-port input/output. Push-pull design structure.", 16 ~{RESET} (in) "Active-low reset input. Connect to VCC  through a pullup resistor, if no active connection is used.", 17 VCC (power) "Supply voltage", 18 VCC (power) "Supply voltage"

## PCA6107DWG4
designator U?
Remote 8-Bit I2C and SMBus Low-Power I/O Expander with Interrupt Output, Reset, and Config Registers, 8 Outputs, -40 to 85 degC, 18-pin SOIC (DW), Green (RoHS & no Sb/Br); Manufacturer: Texas Instruments; PartNumber: PCA6107DWG4; SubFamily: I2C IO Expander; No. of Outputs: 8; Interrupt Output: Yes; Technology Family: PCA; fSCLK(Max)(MHz): 100, 400; VCC(Min)(V): 2.3; VCC(Max)(V): 5.5; DatasheetVersion: SCPS139D; PackageVersion: revG, Jan-2011; PackageReference: DW18; PackageDescription: 18-Pin Plastic Small Outline Integrated Circuit, 11.6 x 7.5 mm, Pitch 1.27 mm Pitch; Supplier 1: Digi-Key; Supplier Part Number 1: PCA6107DWG4-ND; Supplier 2: Newark; Supplier Part Number 2: 02M9968; Supplier 3: Mouser; Supplier Part Number 3: 595-PCA6107DWG4; Eco-Plan: Green (RoHS & no Sb/Br); Reset Input: Yes; Mounting Technology: Surface Mount; Code_JEDEC: MS-013-AB; ComponentLink1Description: Datasheet; ComponentLink1URL: http://www.ti.com/general/docs/lit/getliterature.tsp?genericPartNumber=PCA6107&fileType=pdf; ComponentLink2Description: Package Specification; ComponentLink2URL: http://www.ti.com/litv/pdf/mpds172a
footprint DW18_N (SOIC, 18-Leads, Body 11.6x7.5mm, Pitch 1.27mm, IPC Medium Density)
footprint DW18_L (SOIC, 18-Leads, Body 11.6x7.5mm, Pitch 1.27mm, IPC High Density)
footprint DW18_M (SOIC, 18-Leads, Body 11.6x7.5mm, Pitch 1.27mm, IPC Low Density)
pins: 1 ~{INT} (oc) "Interrupt output. Connect to VCC through a pullup resistor.", 2 SCL (in) "Serial clock bus. Connect to VCC through a pullup resistor.", 3 SDA (io) "Serial data bus. Connect to VCC through a pullup resistor.", 4 A0 (in) "Address input. Connect directly to VCC or ground.", 5 A1 (in) "Address input. Connect directly to VCC or ground.", 6 A2 (in) "Address input. Connect directly to VCC or ground.", 7 P0 (io) "P-port input/output. Open-drain design structure. Connect to VCC through a pullup resistor.", 8 P1 (io) "P-port input/output. Push-pull design structure.", 9 GND (power) "Ground", 10 P2 (io) "P-port input/output. Push-pull design structure.", 11 P3 (io) "P-port input/output. Push-pull design structure.", 12 P4 (io) "P-port input/output. Push-pull design structure.", 13 P5 (io) "P-port input/output. Push-pull design structure.", 14 P6 (io) "P-port input/output. Push-pull design structure.", 15 P7 (io) "P-port input/output. Push-pull design structure.", 16 ~{RESET} (in) "Active-low reset input. Connect to VCC  through a pullup resistor, if no active connection is used.", 17 VCC (power) "Supply voltage", 18 VCC (power) "Supply voltage"

## PCA6107DWR
designator U?
Remote 8-Bit I2C and SMBus Low-Power I/O Expander with Interrupt Output, Reset, and Config Registers, 8 Outputs, -40 to 85 degC, 18-pin SOIC (DW), Green (RoHS & no Sb/Br); Manufacturer: Texas Instruments; PartNumber: PCA6107DWR; SubFamily: I2C IO Expander; No. of Outputs: 8; Interrupt Output: Yes; Technology Family: PCA; fSCLK(Max)(MHz): 100, 400; VCC(Min)(V): 2.3; VCC(Max)(V): 5.5; DatasheetVersion: SCPS139D; PackageVersion: revG, Jan-2011; PackageReference: DW18; PackageDescription: 18-Pin Plastic Small Outline Integrated Circuit, 11.6 x 7.5 mm, Pitch 1.27 mm Pitch; Supplier 1: Digi-Key; Supplier Part Number 1: 296-21756-2-ND; Supplier 2: Digi-Key; Supplier Part Number 2: 296-21756-1-ND; Supplier 3: Digi-Key; Supplier Part Number 3: 296-21756-6-ND; Supplier 4: Newark; Supplier Part Number 4: 02M4029; Supplier 5: Mouser; Supplier Part Number 5: 595-PCA6107DWR; Eco-Plan: Green (RoHS & no Sb/Br); Reset Input: Yes; Mounting Technology: Surface Mount; Code_JEDEC: MS-013-AB; ComponentLink1Description: Datasheet; ComponentLink1URL: http://www.ti.com/general/docs/lit/getliterature.tsp?genericPartNumber=PCA6107&fileType=pdf; ComponentLink2Description: Package Specification; ComponentLink2URL: http://www.ti.com/litv/pdf/mpds172a
footprint DW18_N (SOIC, 18-Leads, Body 11.6x7.5mm, Pitch 1.27mm, IPC Medium Density)
footprint DW18_L (SOIC, 18-Leads, Body 11.6x7.5mm, Pitch 1.27mm, IPC High Density)
footprint DW18_M (SOIC, 18-Leads, Body 11.6x7.5mm, Pitch 1.27mm, IPC Low Density)
pins: 1 ~{INT} (oc) "Interrupt output. Connect to VCC through a pullup resistor.", 2 SCL (in) "Serial clock bus. Connect to VCC through a pullup resistor.", 3 SDA (io) "Serial data bus. Connect to VCC through a pullup resistor.", 4 A0 (in) "Address input. Connect directly to VCC or ground.", 5 A1 (in) "Address input. Connect directly to VCC or ground.", 6 A2 (in) "Address input. Connect directly to VCC or ground.", 7 P0 (io) "P-port input/output. Open-drain design structure. Connect to VCC through a pullup resistor.", 8 P1 (io) "P-port input/output. Push-pull design structure.", 9 GND (power) "Ground", 10 P2 (io) "P-port input/output. Push-pull design structure.", 11 P3 (io) "P-port input/output. Push-pull design structure.", 12 P4 (io) "P-port input/output. Push-pull design structure.", 13 P5 (io) "P-port input/output. Push-pull design structure.", 14 P6 (io) "P-port input/output. Push-pull design structure.", 15 P7 (io) "P-port input/output. Push-pull design structure.", 16 ~{RESET} (in) "Active-low reset input. Connect to VCC  through a pullup resistor, if no active connection is used.", 17 VCC (power) "Supply voltage", 18 VCC (power) "Supply voltage"

## PCA6107DWRG4
designator U?
Remote 8-Bit I2C and SMBus Low-Power I/O Expander with Interrupt Output, Reset, and Config Registers, 8 Outputs, -40 to 85 degC, 18-pin SOIC (DW), Green (RoHS & no Sb/Br); Manufacturer: Texas Instruments; PartNumber: PCA6107DWRG4; SubFamily: I2C IO Expander; No. of Outputs: 8; Interrupt Output: Yes; Technology Family: PCA; fSCLK(Max)(MHz): 100, 400; VCC(Min)(V): 2.3; VCC(Max)(V): 5.5; DatasheetVersion: SCPS139D; PackageVersion: revG, Jan-2011; PackageReference: DW18; PackageDescription: 18-Pin Plastic Small Outline Integrated Circuit, 11.6 x 7.5 mm, Pitch 1.27 mm Pitch; Supplier 1: Digi-Key; Supplier Part Number 1: PCA6107DWRG4-ND; Supplier 2: Newark; Supplier Part Number 2: 02M9969; Supplier 3: Mouser; Supplier Part Number 3: 595-PCA6107DWRG4; Eco-Plan: Green (RoHS & no Sb/Br); Reset Input: Yes; Mounting Technology: Surface Mount; Code_JEDEC: MS-013-AB; ComponentLink1Description: Datasheet; ComponentLink1URL: http://www.ti.com/general/docs/lit/getliterature.tsp?genericPartNumber=PCA6107&fileType=pdf; ComponentLink2Description: Package Specification; ComponentLink2URL: http://www.ti.com/litv/pdf/mpds172a
footprint DW18_N (SOIC, 18-Leads, Body 11.6x7.5mm, Pitch 1.27mm, IPC Medium Density)
footprint DW18_L (SOIC, 18-Leads, Body 11.6x7.5mm, Pitch 1.27mm, IPC High Density)
footprint DW18_M (SOIC, 18-Leads, Body 11.6x7.5mm, Pitch 1.27mm, IPC Low Density)
pins: 1 ~{INT} (oc) "Interrupt output. Connect to VCC through a pullup resistor.", 2 SCL (in) "Serial clock bus. Connect to VCC through a pullup resistor.", 3 SDA (io) "Serial data bus. Connect to VCC through a pullup resistor.", 4 A0 (in) "Address input. Connect directly to VCC or ground.", 5 A1 (in) "Address input. Connect directly to VCC or ground.", 6 A2 (in) "Address input. Connect directly to VCC or ground.", 7 P0 (io) "P-port input/output. Open-drain design structure. Connect to VCC through a pullup resistor.", 8 P1 (io) "P-port input/output. Push-pull design structure.", 9 GND (power) "Ground", 10 P2 (io) "P-port input/output. Push-pull design structure.", 11 P3 (io) "P-port input/output. Push-pull design structure.", 12 P4 (io) "P-port input/output. Push-pull design structure.", 13 P5 (io) "P-port input/output. Push-pull design structure.", 14 P6 (io) "P-port input/output. Push-pull design structure.", 15 P7 (io) "P-port input/output. Push-pull design structure.", 16 ~{RESET} (in) "Active-low reset input. Connect to VCC  through a pullup resistor, if no active connection is used.", 17 VCC (power) "Supply voltage", 18 VCC (power) "Supply voltage"

## PCA9306DCTR
designator U?
Dual Bi-Directional I2C-Bus and SMBus Voltage Level-Translator, 0 to 5.5 V, -40 to 85 degC, 8-pin SM8 (DCT), Green (RoHS & no Sb/Br); Manufacturer: Texas Instruments; PartNumber: PCA9306DCTR; SubFamily: I2C Special Function; No. of Outputs: 2; tpd max(ns): 1.5; fSCLK(Max)(MHz): 400; Function: Voltage Translator; Vcc range(V): 0 to 5.5; Enable Pin: Yes; Rating: Catalog; DatasheetVersion: SCPS113J; PackageVersion: revC, Sep-2002; PackageReference: DCT8; PackageDescription: 8-Pin Thin Small Outline Package 3 x 2.8 mm Body ,0.65 mm Pitch; Supplier 1: Digi-Key; Supplier Part Number 1: 296-18509-2-ND; Supplier 2: Digi-Key; Supplier Part Number 2: 296-18509-1-ND; Supplier 3: Digi-Key; Supplier Part Number 3: 296-18509-6-ND; Supplier 4: Farnell; Supplier Part Number 4: 1470936RL; Supplier 5: Farnell; Supplier Part Number 5: 1470936; Supplier 6: Newark; Supplier Part Number 6: 65J6232; Supplier 7: Mouser; Supplier Part Number 7: 595-PCA9306DCTR; Eco-Plan: Green (RoHS & no Sb/Br); Max Frequency(kHz): 400; Open Drain I/O Type: Yes; 5V Tolerant I/O: Yes; On-Chip Power-on-Reset: No; Mounting Technology: Surface Mount; Code_JEDEC: MO-187-DA; ComponentLink1Description: Datasheet; ComponentLink1URL: http://www.ti.com/general/docs/lit/getliterature.tsp?genericPartNumber=PCA9306&fileType=pdf; ComponentLink2Description: Package Specification; ComponentLink2URL: http://www.ti.com/litv/pdf/mpds049b
footprint DCT8_N (TSOP, 8-Leads, Body 3x2.8mm, Pitch 0.65mm, IPC Medium Density)
footprint DCT8_L (TSOP, 8-Leads, Body 3x2.8mm, Pitch 0.65mm, IPC High Density)
footprint DCT8_M (TSOP, 8-Leads, Body 3x2.8mm, Pitch 0.65mm, IPC Low Density)
pins: 1 GND (power) "Ground, 0 V", 2 VREF1 (power) "Low-voltage-side reference supply voltage for SCL1 and SDA1", 3 SCL1 (io) "Serial clock, low-voltage side", 4 SDA1 (io) "Serial data, low-voltage side", 5 SDA2 (io) "Serial data, high-voltage side", 6 SCL2 (io) "Serial clock, high-voltage side", 7 VREF2 (power) "High-voltage-side reference supply voltage for SCL2 and SDA2", 8 EN (in) "Switch enable input"

## PCA9306DCTRE4
designator U?
Dual Bi-Directional I2C-Bus and SMBus Voltage Level-Translator, 0 to 5.5 V, -40 to 85 degC, 8-pin SM8 (DCT), Green (RoHS & no Sb/Br); Manufacturer: Texas Instruments; PartNumber: PCA9306DCTRE4; SubFamily: I2C Special Function; No. of Outputs: 2; tpd max(ns): 1.5; fSCLK(Max)(MHz): 400; Function: Voltage Translator; Vcc range(V): 0 to 5.5; Enable Pin: Yes; Rating: Catalog; DatasheetVersion: SCPS113J; PackageVersion: revC, Sep-2002; PackageReference: DCT8; PackageDescription: 8-Pin Thin Small Outline Package 3 x 2.8 mm Body ,0.65 mm Pitch; Supplier 1: Digi-Key; Supplier Part Number 1: PCA9306DCTRE4-ND; Supplier 2: Mouser; Supplier Part Number 2: 595-PCA9306DCTRE4; Eco-Plan: Green (RoHS & no Sb/Br); Max Frequency(kHz): 400; Open Drain I/O Type: Yes; 5V Tolerant I/O: Yes; On-Chip Power-on-Reset: No; Mounting Technology: Surface Mount; Code_JEDEC: MO-187-DA; ComponentLink1Description: Datasheet; ComponentLink1URL: http://www.ti.com/general/docs/lit/getliterature.tsp?genericPartNumber=PCA9306&fileType=pdf; ComponentLink2Description: Package Specification; ComponentLink2URL: http://www.ti.com/litv/pdf/mpds049b
footprint DCT8_N (TSOP, 8-Leads, Body 3x2.8mm, Pitch 0.65mm, IPC Medium Density)
footprint DCT8_L (TSOP, 8-Leads, Body 3x2.8mm, Pitch 0.65mm, IPC High Density)
footprint DCT8_M (TSOP, 8-Leads, Body 3x2.8mm, Pitch 0.65mm, IPC Low Density)
pins: 1 GND (power) "Ground, 0 V", 2 VREF1 (power) "Low-voltage-side reference supply voltage for SCL1 and SDA1", 3 SCL1 (io) "Serial clock, low-voltage side", 4 SDA1 (io) "Serial data, low-voltage side", 5 SDA2 (io) "Serial data, high-voltage side", 6 SCL2 (io) "Serial clock, high-voltage side", 7 VREF2 (power) "High-voltage-side reference supply voltage for SCL2 and SDA2", 8 EN (in) "Switch enable input"